# Altium footprint library TPS63051RMWR.PcbLib: 1 footprints
Each footprint in its own frame and in the unit in brackets; x right, y up, seen from the top. Pads: shape width x height; smd on the part's side, far side on the other; paste and mask are expansions set on the pad; w line width, h text height; cw(c..) or ccw(c..) is an arc to the next point about the centre after c.
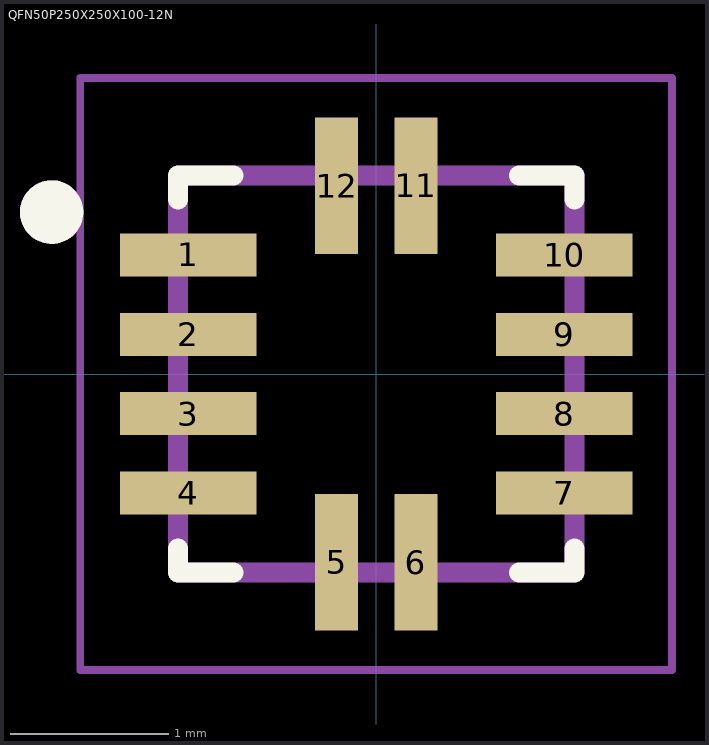
[diagram p0: the footprint, top view; thin cyan lines are the x and y axes]

## QFN50P250X250X100-12N [mm]
pads (12):
  rect 0.86x0.27 smd: 1(-1.185,0.75) 2(-1.185,0.25) 3(-1.185,-0.25) 4(-1.185,-0.75) 7(1.185,-0.75) 8(1.185,-0.25) 9(1.185,0.25) 10(1.185,0.75)
  rect 0.27x0.86 smd: 5(-0.25,-1.185) 6(0.25,-1.185) 11(0.25,1.185) 12(-0.25,1.185)
Top Overlay:
  circle w0.2: c-2.045,1.02 r0.1
  lines w0.127: -1.25,-1.1 -1.25,-1.25 -0.9,-1.25 ; -1.25,1.1 -1.25,1.25 -0.9,1.25 ; 0.9,-1.25 1.25,-1.25 1.25,-1.1 ; 0.9,1.25 1.25,1.25 1.25,1.1
Mechanical 1:
  circle w0.2: c-2.045,1.02 r0.1
  lines w0.127: -1.25,-1.25 -1.25,1.25 1.25,1.25 1.25,-1.25 -1.25,-1.25
Mechanical 4:
  lines w0.05: -1.865,-1.865 -1.865,1.865 1.865,1.865 1.865,-1.865 -1.865,-1.865